# Altium footprint library DS1024-1X6R.PcbLib: 1 footprints
Each footprint in its own frame and in the unit in brackets; x right, y up, seen from the top. Pads: shape width x height; smd on the part's side, far side on the other; paste and mask are expansions set on the pad; w line width, h text height; cw(c..) or ccw(c..) is an arc to the next point about the centre after c.
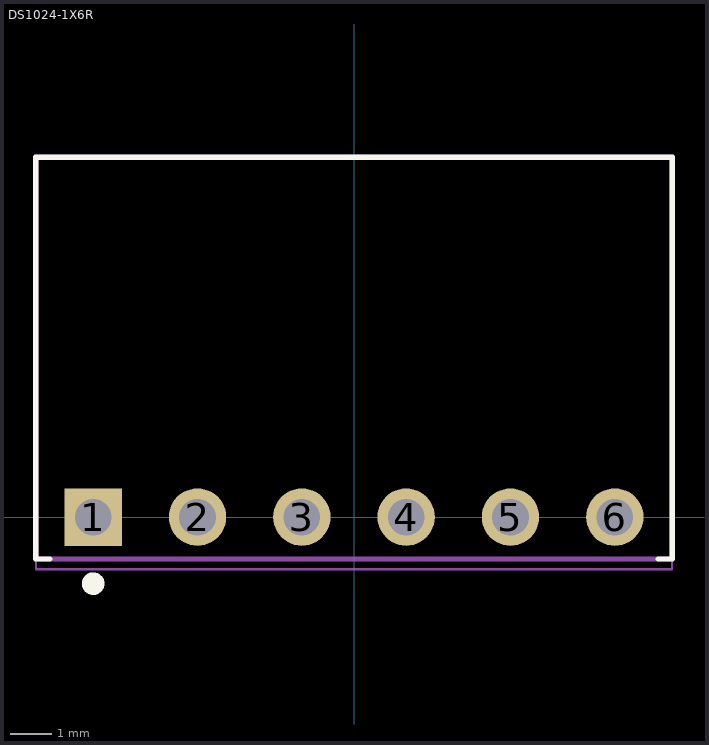
[diagram p0: the footprint, top view; thin cyan lines are the x and y axes]

## DS1024-1X6R [mm] "PBS-08R"
pads (6):
  rect 1.398x1.398 hole 0.89: 1(-6.35,0)
  round 1.398 hole 0.89: 2(-3.81,0) 3(-1.27,0) 4(1.27,0) 5(3.81,0) 6(6.35,0)
Top Overlay:
  circle w0.2: c-6.35,-1.62 r0.1
  circle w0.2: c-6.35,-1.62 r0.176
  lines w0.127: -7.406,-1.02 -7.747,-1.02 -7.747,8.763 7.747,8.763 7.747,-1.02 7.406,-1.02
Mechanical 13:
  lines w0.127: -7.747,-1.02 -7.747,8.763 7.747,8.763 7.747,-1.02 -7.747,-1.02
Mechanical 15:
  lines w0.05: -7.747,-1.27 7.747,-1.27 7.747,8.763 -7.747,8.763 -7.747,-1.27
3D body "PBS-6R.STEP": height 2.54, standoff -3.3, extent -7.62,-0.254 7.61,9.946